# Altium integrated library Linear Technology Power Management Hot Swap Controllers.IntLib: 992 symbols (part 6 of 93)
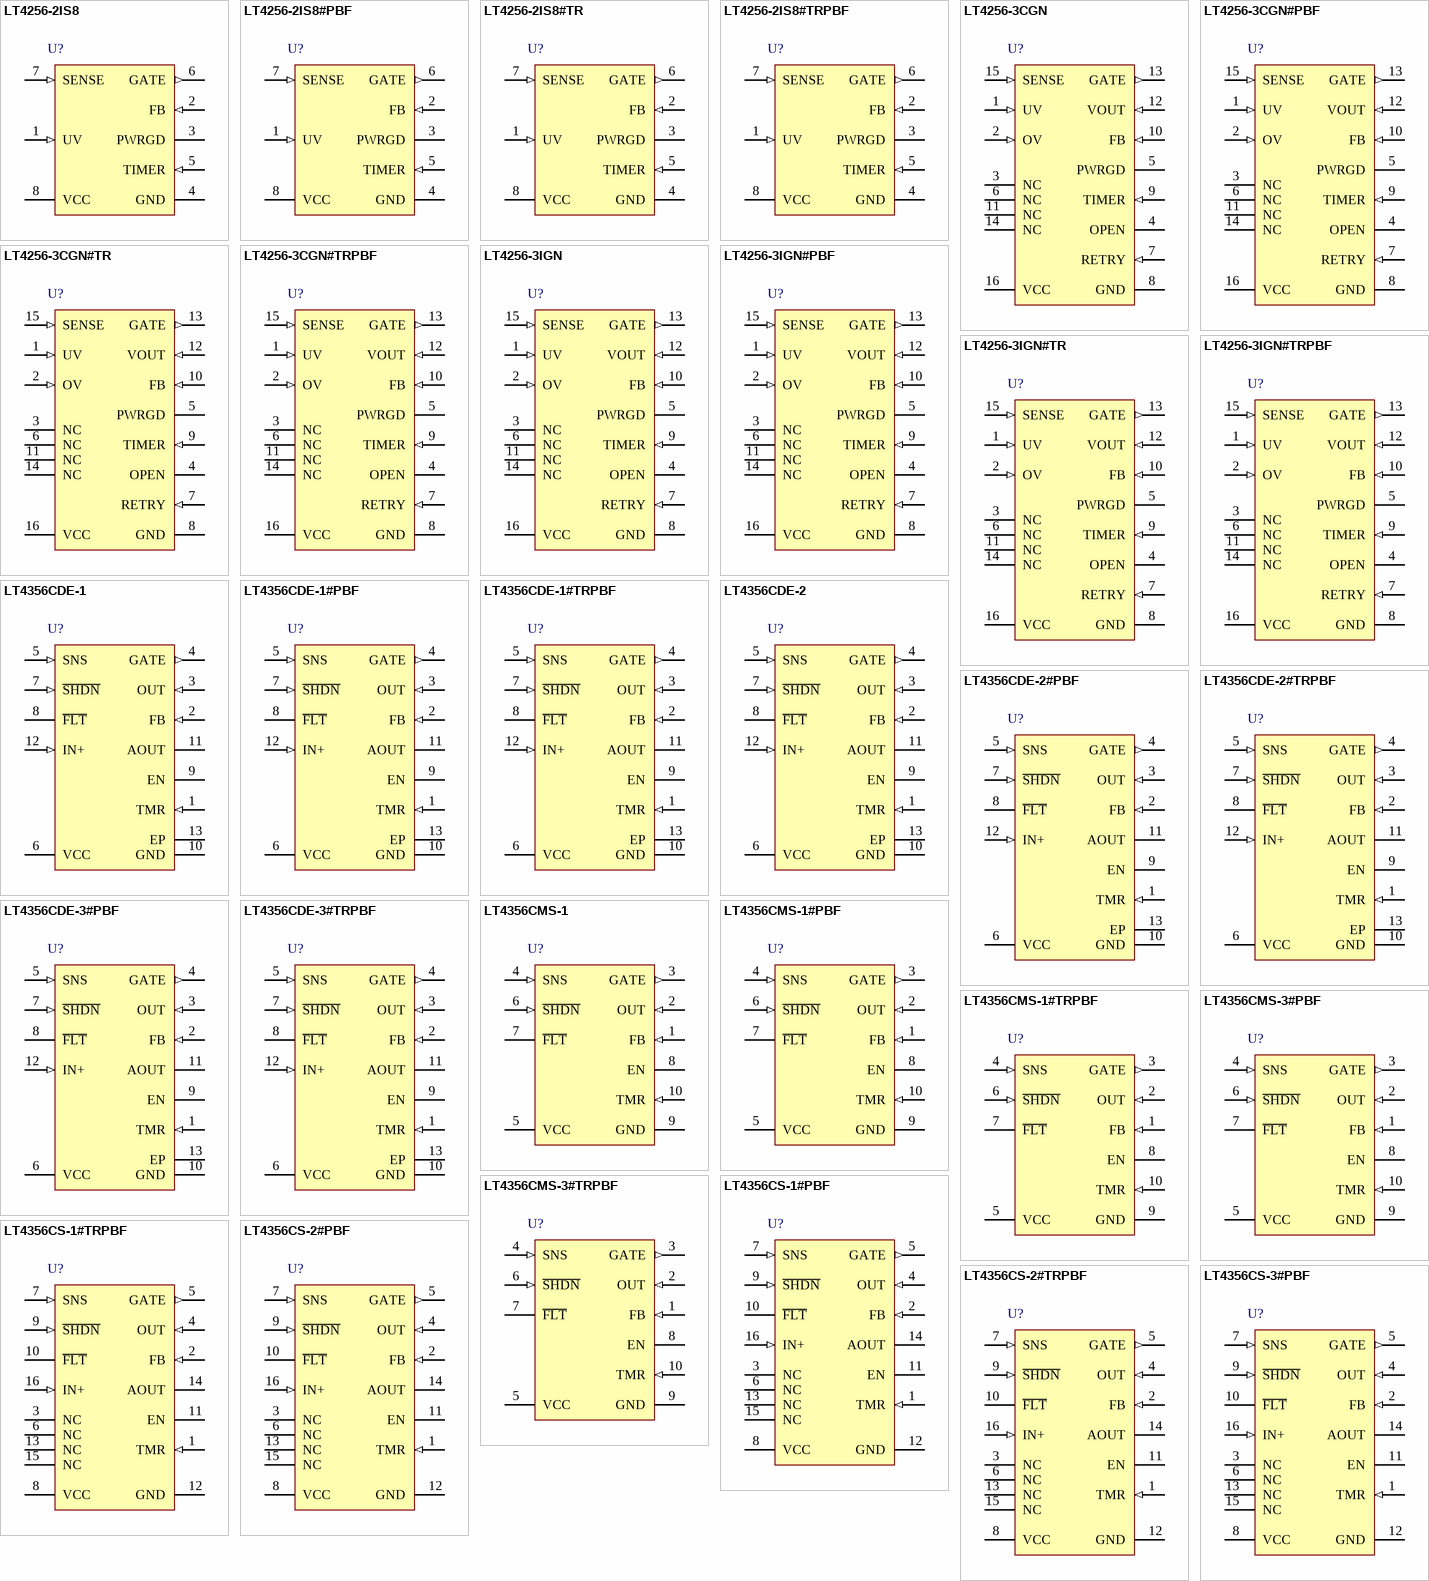
[diagram p42: symbols LT4256-2IS8 to LT4356CS-3#PBF]

## LT4256-3IGN#TR
designator U?
Positive High Voltage Hot Swap Controller with Open-Circuit Detect, 10.8 to 80 V Vin, 16-pin SOP (GN-16), -40 to 85 degC, Tape and Reel; Manufacturer: Linear Technology; PartNumber: LT4256-3IGN#TR; Active Limiting: yes; Circuit Breaker Accuracy(%): 18; Circuit Breaker Threshold: 55 mV; Circuit Breakers(#): 1; Extended Temp: C, I; Fast Comparator: no; In-Rush Current: Active; DatasheetVersion: Rev. A; PackageVersion: Rev. B, 03/2012; PackageReference: GN-16; PackageDescription: 16-Pin Plastic SSOP, Body 4.9 x 3.9 mm, Pitch 0.635 mm; Supplier 1: Digi-Key; Supplier Part Number 1: LT4256-3IGN#TR-ND; Fault: no; Foldback: yes; Packing: Tape and Reel; Power Good: yes; Reset: no; RoHS: FALSE; Vin Range: 10.8 to 80 V; Mounting Technology: Surface Mount; ComponentLink1Description: Manufacturer URL; ComponentLink1URL: http://www.linear.com/; ComponentLink2Description: Datasheet; ComponentLink2URL: http://cds.linear.com/docs/en/datasheet/42563fa.pm6.pdf; ComponentLink3Description: Package Specification; ComponentLink3URL: http://cds.linear.com/docs/en/packaging/05081641_B_GN16.pdf
footprint LT-GN-16_N (SOP, 16-Leads, Body 5x4mm, Pitch 0.635mm, IPC Medium Density)
footprint LT-GN-16_L (SOP, 16-Leads, Body 5x4mm, Pitch 0.635mm, IPC High Density)
footprint LT-GN-16_M (SOP, 16-Leads, Body 5x4mm, Pitch 0.635mm, IPC Low Density)
pins: 1 UV (in) "Undervoltage Sense Input. UV is an input that enables the output voltage. When UV is driven above 4V, GATE will start charging and the output turns on. When UV goes below 3.6V, GATE discharges and the output shuts off. (See Datasheet)", 2 OV (in) "Overvoltage Sense Input. OV is an input that disables the output voltage. If OV ever goes above 4V, GATE is discharged and the output shuts off. When OV goes below 3.6V, GATE starts charging and the output turns back on. To (See Datasheet)", 3 NC "No Connect. Not connected to any internal circuitry.", 4 OPEN (oc) "Open Circuit Detect Output. This pin is an open collector output that releases and is pulled high through an external resistor if the load current is less than (3mV)/R5.", 5 PWRGD (hiz) "Power Good Output. PWRGD is pulled low whenever the voltage on FB falls below the high-to-low threshold voltage. It goes into a high impedance state when the voltage on FB exceeds the low-to-high threshold voltage. An (See Datasheet)", 6 NC "No Connect. Not connected to any internal circuitry.", 7 RETRY (in) "Current Fault Retry Input. RETRY commands the operational mode of the current limit. If RETRY is floating, the LT4256-3 automatically restarts after a current fault. If it is connected to a voltage below 0.4V, it will latch (See Datasheet)", 8 GND (power) "Device Ground. This pin must be tied to a ground plane for best performance.", 9 TIMER (in) "Timing Input. An external timing capacitor from TIMER to GND programs the maximum time the part is allowed to remain in current limit. When the part goes into current limit, a 105uA pull-up current source starts to charge (See Datasheet)", 10 FB (in) "Power Good Comparator Input. FB monitors the output voltage through an external resistive divider. When the voltage on FB is lower than the high-to-low threshold of 3.99V, PWRGD is pulled low and released when FB is pulled (See Datasheet)", 11 NC "No Connect. Not connected to any internal circuitry.", 12 VOUT (in) "Output Voltage Sense Input. This pin should be connected to the source of the external MOSFET. It is used to sense when the MOSFET is shut off (during any fault mode) and to reduce the pull-down current on GATE. This (See Datasheet)", 13 GATE (out) "High Side Gate Drive for the External N-Channel MOSFET. An internal charge pump guarantees at least 10V of gate drive for VCC supply voltages above 20V and 4.5V of gate drive for VCC supply voltages between 10.8V and 20V. (See Datasheet)", 14 NC "No Connect. Not connected to any internal circuitry.", 15 SENSE (in) "Current Limit Sense Input. A sense resistor is placed in the supply path between VCC and SENSE. The current limit circuit regulates the voltage across the sense resistor (VCC - SENSE) to 55mV while in current limit when FB (See Datasheet)", 16 VCC (power) "Input Supply Voltage. The positive supply input ranges from 10.8V to 80V for normal operation. ICC is typically 1.8mA. An internal circuit disables the LT4256-3 for inputs less than 9.8V (typ)."

## LT4256-3IGN#TRPBF
designator U?
Positive High Voltage Hot Swap Controller with Open-Circuit Detect, 10.8 to 80 V Vin, 16-pin SOP (GN-16), -40 to 85 degC, Pb-Free, Tape and Reel; Manufacturer: Linear Technology; PartNumber: LT4256-3IGN#TRPBF; Active Limiting: yes; Circuit Breaker Accuracy(%): 18; Circuit Breaker Threshold: 55 mV; Circuit Breakers(#): 1; Extended Temp: C, I; Fast Comparator: no; In-Rush Current: Active; DatasheetVersion: Rev. A; PackageVersion: Rev. B, 03/2012; PackageReference: GN-16; PackageDescription: 16-Pin Plastic SSOP, Body 4.9 x 3.9 mm, Pitch 0.635 mm; Supplier 1: Digi-Key; Supplier Part Number 1: LT4256-3IGN#TRPBF-ND; Supplier 2: Newark; Supplier Part Number 2: 57M8704; Fault: no; Foldback: yes; Packing: Tape and Reel; Power Good: yes; Reset: no; RoHS: TRUE; Vin Range: 10.8 to 80 V; Mounting Technology: Surface Mount; ComponentLink1Description: Manufacturer URL; ComponentLink1URL: http://www.linear.com/; ComponentLink2Description: Datasheet; ComponentLink2URL: http://cds.linear.com/docs/en/datasheet/42563fa.pm6.pdf; ComponentLink3Description: Package Specification; ComponentLink3URL: http://cds.linear.com/docs/en/packaging/05081641_B_GN16.pdf
footprint LT-GN-16_N (SOP, 16-Leads, Body 5x4mm, Pitch 0.635mm, IPC Medium Density)
footprint LT-GN-16_L (SOP, 16-Leads, Body 5x4mm, Pitch 0.635mm, IPC High Density)
footprint LT-GN-16_M (SOP, 16-Leads, Body 5x4mm, Pitch 0.635mm, IPC Low Density)
pins: 1 UV (in) "Undervoltage Sense Input. UV is an input that enables the output voltage. When UV is driven above 4V, GATE will start charging and the output turns on. When UV goes below 3.6V, GATE discharges and the output shuts off. (See Datasheet)", 2 OV (in) "Overvoltage Sense Input. OV is an input that disables the output voltage. If OV ever goes above 4V, GATE is discharged and the output shuts off. When OV goes below 3.6V, GATE starts charging and the output turns back on. To (See Datasheet)", 3 NC "No Connect. Not connected to any internal circuitry.", 4 OPEN (oc) "Open Circuit Detect Output. This pin is an open collector output that releases and is pulled high through an external resistor if the load current is less than (3mV)/R5.", 5 PWRGD (hiz) "Power Good Output. PWRGD is pulled low whenever the voltage on FB falls below the high-to-low threshold voltage. It goes into a high impedance state when the voltage on FB exceeds the low-to-high threshold voltage. An (See Datasheet)", 6 NC "No Connect. Not connected to any internal circuitry.", 7 RETRY (in) "Current Fault Retry Input. RETRY commands the operational mode of the current limit. If RETRY is floating, the LT4256-3 automatically restarts after a current fault. If it is connected to a voltage below 0.4V, it will latch (See Datasheet)", 8 GND (power) "Device Ground. This pin must be tied to a ground plane for best performance.", 9 TIMER (in) "Timing Input. An external timing capacitor from TIMER to GND programs the maximum time the part is allowed to remain in current limit. When the part goes into current limit, a 105uA pull-up current source starts to charge (See Datasheet)", 10 FB (in) "Power Good Comparator Input. FB monitors the output voltage through an external resistive divider. When the voltage on FB is lower than the high-to-low threshold of 3.99V, PWRGD is pulled low and released when FB is pulled (See Datasheet)", 11 NC "No Connect. Not connected to any internal circuitry.", 12 VOUT (in) "Output Voltage Sense Input. This pin should be connected to the source of the external MOSFET. It is used to sense when the MOSFET is shut off (during any fault mode) and to reduce the pull-down current on GATE. This (See Datasheet)", 13 GATE (out) "High Side Gate Drive for the External N-Channel MOSFET. An internal charge pump guarantees at least 10V of gate drive for VCC supply voltages above 20V and 4.5V of gate drive for VCC supply voltages between 10.8V and 20V. (See Datasheet)", 14 NC "No Connect. Not connected to any internal circuitry.", 15 SENSE (in) "Current Limit Sense Input. A sense resistor is placed in the supply path between VCC and SENSE. The current limit circuit regulates the voltage across the sense resistor (VCC - SENSE) to 55mV while in current limit when FB (See Datasheet)", 16 VCC (power) "Input Supply Voltage. The positive supply input ranges from 10.8V to 80V for normal operation. ICC is typically 1.8mA. An internal circuit disables the LT4256-3 for inputs less than 9.8V (typ)."

## LT4356CDE-1
designator U?
Surge Stopper, 4 to 80 V Vin, 12-pin SON (DE-UE-12), 0 to 70 degC; Manufacturer: Linear Technology; PartNumber: LT4356CDE-1; Active Limiting: yes; Circuit Breaker Accuracy(%): 10; Circuit Breaker Threshold: 50 mV; Circuit Breakers(#): 1; Extended Temp: C, I, H; Fast Comparator: no; In-Rush Current: Ramp; Vin Range: 4 to 80 V; DatasheetVersion: Rev. A; PackageVersion: Rev. D, 06/2010; PackageReference: DE-UE-12; PackageDescription: 12-Pin Plastic DFN, Body 4 x 3 mm, Pitch 0.5 mm; Fault: no; Foldback: yes; Power Good: no; Reset: no; RoHS: FALSE; Mounting Technology: Surface Mount; Code_JEDEC: MO-229; ComponentLink1Description: Manufacturer URL; ComponentLink1URL: http://www.linear.com/; ComponentLink2Description: Datasheet; ComponentLink2URL: http://cds.linear.com/docs/en/datasheet/4356fa.pdf; ComponentLink3Description: Package Specification; ComponentLink3URL: http://cds.linear.com/docs/en/packaging/DFN_12_05-08-1695.pdf
footprint LT-DE-UE-12_V (SON, 12-Leads, Body 4x3mm, Pitch 0.5mm, Thermal Pad 3.3x1.7mm)
pins: 1 TMR (in) "Fault Timer Input. Connect a capacitor between this pin and ground to set the times for early warning, fault and cool down periods. The current charging up this pin during fault conditions depends on the voltage difference (See Datasheet)", 2 FB (in) "Voltage Regulator Feedback Input. Connect this pin to the center tap of the output resistive divider connected between the OUT pin and ground. During an overvoltage condition, the GATE pin is servoed to maintain a 1.25V (See Datasheet)", 3 OUT (in) "Output Voltage Sense Input. This pin senses the voltage at the source of the N-channel MOSFET and sets the fault timer current. When the OUT pin voltage reaches 0.7V away from VCC, the EN pin goes high impedance.", 4 GATE (out) "N-Channel MOSFET Gate Drive Output. The GATE pin is pulled up by an internal charge pump current source and clamped to 14V above the OUT pin. Both voltage and current amplifiers control the GATE pin to regulate the output (See Datasheet)", 5 SNS (in) "Current Sense Input. Connect this pin to the output of the current sense resistor. The current limit circuit controls the GATE pin to limit the sense voltage between VCC and SNS pins to 50mV. At the same time the sense (See Datasheet)", 6 VCC (power) "Positive Supply Voltage Input.", 7 ~{SHDN} (in) "Shutdown Control Input. The LT4356 can be shut down to a low current mode by pulling the S\H\D\N\ pin below 0.4V. Pull this pin above 2.1V or disconnect it and allow the internal current source to turn the part back on. The (See Datasheet)", 8 ~{FLT} (hiz) "Open-Collector Fault Output. This pin pulls low after the voltage at the TMR pin has reached the fault threshold of 1.25V. It indicates the pass transistor is about to turn off because either the supply voltage has stayed at (See Datasheet)", 9 EN (hiz) "Open-Collector Enable Output. The EN pin goes high impedance when the voltage at the OUT pin is above (VCC - 0.7V), indicating the external MOSFET is fully on.", 10 GND (power) "Device Ground.", 11 AOUT (oc) "Amplifier Output. Open collector output of the auxiliary amplifier. It is capable of sinking up to 2mA from 80V. The negative input of the amplifier is internally connected to a 1.25V reference.", 12 IN+ (in) "Positive Input of the Auxiliary Amplifier. This amplifier can be used as a level detection comparator with external hysteresis or linear regulator controlling an external PNP transistor. This pin is clamped internally to 7V. (See Datasheet)", 13 EP (power) "Exposed pad may be left open or connected to device ground (GND)."

## LT4356CDE-1#PBF
designator U?
Surge Stopper, 4 to 80 V Vin, 12-pin SON (DE-UE-12), 0 to 70 degC, Pb-Free; Manufacturer: Linear Technology; PartNumber: LT4356CDE-1#PBF; Active Limiting: yes; Circuit Breaker Accuracy(%): 10; Circuit Breaker Threshold: 50 mV; Circuit Breakers(#): 1; Extended Temp: C, I, H; Fast Comparator: no; In-Rush Current: Ramp; Vin Range: 4 to 80 V; DatasheetVersion: Rev. A; PackageVersion: Rev. D, 06/2010; PackageReference: DE-UE-12; PackageDescription: 12-Pin Plastic DFN, Body 4 x 3 mm, Pitch 0.5 mm; Supplier 1: Digi-Key; Supplier Part Number 1: LT4356CDE-1#PBF-ND; Supplier 2: Newark; Supplier Part Number 2: 57M8714; Fault: no; Foldback: yes; Power Good: no; Reset: no; RoHS: TRUE; Mounting Technology: Surface Mount; Code_JEDEC: MO-229; ComponentLink1Description: Manufacturer URL; ComponentLink1URL: http://www.linear.com/; ComponentLink2Description: Datasheet; ComponentLink2URL: http://cds.linear.com/docs/en/datasheet/4356fa.pdf; ComponentLink3Description: Package Specification; ComponentLink3URL: http://cds.linear.com/docs/en/packaging/DFN_12_05-08-1695.pdf
footprint LT-DE-UE-12_V (SON, 12-Leads, Body 4x3mm, Pitch 0.5mm, Thermal Pad 3.3x1.7mm)
pins: 1 TMR (in) "Fault Timer Input. Connect a capacitor between this pin and ground to set the times for early warning, fault and cool down periods. The current charging up this pin during fault conditions depends on the voltage difference (See Datasheet)", 2 FB (in) "Voltage Regulator Feedback Input. Connect this pin to the center tap of the output resistive divider connected between the OUT pin and ground. During an overvoltage condition, the GATE pin is servoed to maintain a 1.25V (See Datasheet)", 3 OUT (in) "Output Voltage Sense Input. This pin senses the voltage at the source of the N-channel MOSFET and sets the fault timer current. When the OUT pin voltage reaches 0.7V away from VCC, the EN pin goes high impedance.", 4 GATE (out) "N-Channel MOSFET Gate Drive Output. The GATE pin is pulled up by an internal charge pump current source and clamped to 14V above the OUT pin. Both voltage and current amplifiers control the GATE pin to regulate the output (See Datasheet)", 5 SNS (in) "Current Sense Input. Connect this pin to the output of the current sense resistor. The current limit circuit controls the GATE pin to limit the sense voltage between VCC and SNS pins to 50mV. At the same time the sense (See Datasheet)", 6 VCC (power) "Positive Supply Voltage Input.", 7 ~{SHDN} (in) "Shutdown Control Input. The LT4356 can be shut down to a low current mode by pulling the S\H\D\N\ pin below 0.4V. Pull this pin above 2.1V or disconnect it and allow the internal current source to turn the part back on. The (See Datasheet)", 8 ~{FLT} (hiz) "Open-Collector Fault Output. This pin pulls low after the voltage at the TMR pin has reached the fault threshold of 1.25V. It indicates the pass transistor is about to turn off because either the supply voltage has stayed at (See Datasheet)", 9 EN (hiz) "Open-Collector Enable Output. The EN pin goes high impedance when the voltage at the OUT pin is above (VCC - 0.7V), indicating the external MOSFET is fully on.", 10 GND (power) "Device Ground.", 11 AOUT (oc) "Amplifier Output. Open collector output of the auxiliary amplifier. It is capable of sinking up to 2mA from 80V. The negative input of the amplifier is internally connected to a 1.25V reference.", 12 IN+ (in) "Positive Input of the Auxiliary Amplifier. This amplifier can be used as a level detection comparator with external hysteresis or linear regulator controlling an external PNP transistor. This pin is clamped internally to 7V. (See Datasheet)", 13 EP (power) "Exposed pad may be left open or connected to device ground (GND)."

## LT4356CDE-1#TRPBF
designator U?
Surge Stopper, 4 to 80 V Vin, 12-pin SON (DE-UE-12), 0 to 70 degC, Pb-Free, Tape and Reel; Manufacturer: Linear Technology; PartNumber: LT4356CDE-1#TRPBF; Active Limiting: yes; Circuit Breaker Accuracy(%): 10; Circuit Breaker Threshold: 50 mV; Circuit Breakers(#): 1; Extended Temp: C, I, H; Fast Comparator: no; In-Rush Current: Ramp; Vin Range: 4 to 80 V; DatasheetVersion: Rev. A; PackageVersion: Rev. D, 06/2010; PackageReference: DE-UE-12; PackageDescription: 12-Pin Plastic DFN, Body 4 x 3 mm, Pitch 0.5 mm; Supplier 1: Digi-Key; Supplier Part Number 1: LT4356CDE-1#TRPBF-ND; Fault: no; Foldback: yes; Packing: Tape and Reel; Power Good: no; Reset: no; RoHS: TRUE; Mounting Technology: Surface Mount; Code_JEDEC: MO-229; ComponentLink1Description: Manufacturer URL; ComponentLink1URL: http://www.linear.com/; ComponentLink2Description: Datasheet; ComponentLink2URL: http://cds.linear.com/docs/en/datasheet/4356fa.pdf; ComponentLink3Description: Package Specification; ComponentLink3URL: http://cds.linear.com/docs/en/packaging/DFN_12_05-08-1695.pdf
footprint LT-DE-UE-12_V (SON, 12-Leads, Body 4x3mm, Pitch 0.5mm, Thermal Pad 3.3x1.7mm)
pins: 1 TMR (in) "Fault Timer Input. Connect a capacitor between this pin and ground to set the times for early warning, fault and cool down periods. The current charging up this pin during fault conditions depends on the voltage difference (See Datasheet)", 2 FB (in) "Voltage Regulator Feedback Input. Connect this pin to the center tap of the output resistive divider connected between the OUT pin and ground. During an overvoltage condition, the GATE pin is servoed to maintain a 1.25V (See Datasheet)", 3 OUT (in) "Output Voltage Sense Input. This pin senses the voltage at the source of the N-channel MOSFET and sets the fault timer current. When the OUT pin voltage reaches 0.7V away from VCC, the EN pin goes high impedance.", 4 GATE (out) "N-Channel MOSFET Gate Drive Output. The GATE pin is pulled up by an internal charge pump current source and clamped to 14V above the OUT pin. Both voltage and current amplifiers control the GATE pin to regulate the output (See Datasheet)", 5 SNS (in) "Current Sense Input. Connect this pin to the output of the current sense resistor. The current limit circuit controls the GATE pin to limit the sense voltage between VCC and SNS pins to 50mV. At the same time the sense (See Datasheet)", 6 VCC (power) "Positive Supply Voltage Input.", 7 ~{SHDN} (in) "Shutdown Control Input. The LT4356 can be shut down to a low current mode by pulling the S\H\D\N\ pin below 0.4V. Pull this pin above 2.1V or disconnect it and allow the internal current source to turn the part back on. The (See Datasheet)", 8 ~{FLT} (hiz) "Open-Collector Fault Output. This pin pulls low after the voltage at the TMR pin has reached the fault threshold of 1.25V. It indicates the pass transistor is about to turn off because either the supply voltage has stayed at (See Datasheet)", 9 EN (hiz) "Open-Collector Enable Output. The EN pin goes high impedance when the voltage at the OUT pin is above (VCC - 0.7V), indicating the external MOSFET is fully on.", 10 GND (power) "Device Ground.", 11 AOUT (oc) "Amplifier Output. Open collector output of the auxiliary amplifier. It is capable of sinking up to 2mA from 80V. The negative input of the amplifier is internally connected to a 1.25V reference.", 12 IN+ (in) "Positive Input of the Auxiliary Amplifier. This amplifier can be used as a level detection comparator with external hysteresis or linear regulator controlling an external PNP transistor. This pin is clamped internally to 7V. (See Datasheet)", 13 EP (power) "Exposed pad may be left open or connected to device ground (GND)."

## LT4356CDE-2
designator U?
Surge Stopper, 4 to 80 V Vin, 12-pin SON (DE-UE-12), 0 to 70 degC; Manufacturer: Linear Technology; PartNumber: LT4356CDE-2; Active Limiting: yes; Circuit Breaker Accuracy(%): 10; Circuit Breaker Threshold: 50 mV; Circuit Breakers(#): 1; Extended Temp: C, I, H; Fast Comparator: no; In-Rush Current: Ramp; Vin Range: 4 to 80 V; DatasheetVersion: Rev. A; PackageVersion: Rev. D, 06/2010; PackageReference: DE-UE-12; PackageDescription: 12-Pin Plastic DFN, Body 4 x 3 mm, Pitch 0.5 mm; Fault: no; Foldback: yes; Power Good: no; Reset: no; RoHS: FALSE; Mounting Technology: Surface Mount; Code_JEDEC: MO-229; ComponentLink1Description: Manufacturer URL; ComponentLink1URL: http://www.linear.com/; ComponentLink2Description: Datasheet; ComponentLink2URL: http://cds.linear.com/docs/en/datasheet/4356fa.pdf; ComponentLink3Description: Package Specification; ComponentLink3URL: http://cds.linear.com/docs/en/packaging/DFN_12_05-08-1695.pdf
footprint LT-DE-UE-12_V (SON, 12-Leads, Body 4x3mm, Pitch 0.5mm, Thermal Pad 3.3x1.7mm)
pins: 1 TMR (in) "Fault Timer Input. Connect a capacitor between this pin and ground to set the times for early warning, fault and cool down periods. The current charging up this pin during fault conditions depends on the voltage difference (See Datasheet)", 2 FB (in) "Voltage Regulator Feedback Input. Connect this pin to the center tap of the output resistive divider connected between the OUT pin and ground. During an overvoltage condition, the GATE pin is servoed to maintain a 1.25V (See Datasheet)", 3 OUT (in) "Output Voltage Sense Input. This pin senses the voltage at the source of the N-channel MOSFET and sets the fault timer current. When the OUT pin voltage reaches 0.7V away from VCC, the EN pin goes high impedance.", 4 GATE (out) "N-Channel MOSFET Gate Drive Output. The GATE pin is pulled up by an internal charge pump current source and clamped to 14V above the OUT pin. Both voltage and current amplifiers control the GATE pin to regulate the output (See Datasheet)", 5 SNS (in) "Current Sense Input. Connect this pin to the output of the current sense resistor. The current limit circuit controls the GATE pin to limit the sense voltage between VCC and SNS pins to 50mV. At the same time the sense (See Datasheet)", 6 VCC (power) "Positive Supply Voltage Input.", 7 ~{SHDN} (in) "Shutdown Control Input. The LT4356 can be shut down to a low current mode by pulling the S\H\D\N\ pin below 0.4V. Pull this pin above 2.1V or disconnect it and allow the internal current source to turn the part back on. The (See Datasheet)", 8 ~{FLT} (hiz) "Open-Collector Fault Output. This pin pulls low after the voltage at the TMR pin has reached the fault threshold of 1.25V. It indicates the pass transistor is about to turn off because either the supply voltage has stayed at (See Datasheet)", 9 EN (hiz) "Open-Collector Enable Output. The EN pin goes high impedance when the voltage at the OUT pin is above (VCC - 0.7V), indicating the external MOSFET is fully on.", 10 GND (power) "Device Ground.", 11 AOUT (oc) "Amplifier Output. Open collector output of the auxiliary amplifier. It is capable of sinking up to 2mA from 80V. The negative input of the amplifier is internally connected to a 1.25V reference.", 12 IN+ (in) "Positive Input of the Auxiliary Amplifier. This amplifier can be used as a level detection comparator with external hysteresis or linear regulator controlling an external PNP transistor. This pin is clamped internally to 7V. (See Datasheet)", 13 EP (power) "Exposed pad may be left open or connected to device ground (GND)."

## LT4356CDE-2#PBF
designator U?
Surge Stopper, 4 to 80 V Vin, 12-pin SON (DE-UE-12), 0 to 70 degC, Pb-Free; Manufacturer: Linear Technology; PartNumber: LT4356CDE-2#PBF; Active Limiting: yes; Circuit Breaker Accuracy(%): 10; Circuit Breaker Threshold: 50 mV; Circuit Breakers(#): 1; Extended Temp: C, I, H; Fast Comparator: no; In-Rush Current: Ramp; Vin Range: 4 to 80 V; DatasheetVersion: Rev. A; PackageVersion: Rev. D, 06/2010; PackageReference: DE-UE-12; PackageDescription: 12-Pin Plastic DFN, Body 4 x 3 mm, Pitch 0.5 mm; Supplier 1: Digi-Key; Supplier Part Number 1: LT4356CDE-2#PBF-ND; Supplier 2: Newark; Supplier Part Number 2: 51P3111; Fault: no; Foldback: yes; Power Good: no; Reset: no; RoHS: TRUE; Mounting Technology: Surface Mount; Code_JEDEC: MO-229; ComponentLink1Description: Manufacturer URL; ComponentLink1URL: http://www.linear.com/; ComponentLink2Description: Datasheet; ComponentLink2URL: http://cds.linear.com/docs/en/datasheet/4356fa.pdf; ComponentLink3Description: Package Specification; ComponentLink3URL: http://cds.linear.com/docs/en/packaging/DFN_12_05-08-1695.pdf
footprint LT-DE-UE-12_V (SON, 12-Leads, Body 4x3mm, Pitch 0.5mm, Thermal Pad 3.3x1.7mm)
pins: 1 TMR (in) "Fault Timer Input. Connect a capacitor between this pin and ground to set the times for early warning, fault and cool down periods. The current charging up this pin during fault conditions depends on the voltage difference (See Datasheet)", 2 FB (in) "Voltage Regulator Feedback Input. Connect this pin to the center tap of the output resistive divider connected between the OUT pin and ground. During an overvoltage condition, the GATE pin is servoed to maintain a 1.25V (See Datasheet)", 3 OUT (in) "Output Voltage Sense Input. This pin senses the voltage at the source of the N-channel MOSFET and sets the fault timer current. When the OUT pin voltage reaches 0.7V away from VCC, the EN pin goes high impedance.", 4 GATE (out) "N-Channel MOSFET Gate Drive Output. The GATE pin is pulled up by an internal charge pump current source and clamped to 14V above the OUT pin. Both voltage and current amplifiers control the GATE pin to regulate the output (See Datasheet)", 5 SNS (in) "Current Sense Input. Connect this pin to the output of the current sense resistor. The current limit circuit controls the GATE pin to limit the sense voltage between VCC and SNS pins to 50mV. At the same time the sense (See Datasheet)", 6 VCC (power) "Positive Supply Voltage Input.", 7 ~{SHDN} (in) "Shutdown Control Input. The LT4356 can be shut down to a low current mode by pulling the S\H\D\N\ pin below 0.4V. Pull this pin above 2.1V or disconnect it and allow the internal current source to turn the part back on. The (See Datasheet)", 8 ~{FLT} (hiz) "Open-Collector Fault Output. This pin pulls low after the voltage at the TMR pin has reached the fault threshold of 1.25V. It indicates the pass transistor is about to turn off because either the supply voltage has stayed at (See Datasheet)", 9 EN (hiz) "Open-Collector Enable Output. The EN pin goes high impedance when the voltage at the OUT pin is above (VCC - 0.7V), indicating the external MOSFET is fully on.", 10 GND (power) "Device Ground.", 11 AOUT (oc) "Amplifier Output. Open collector output of the auxiliary amplifier. It is capable of sinking up to 2mA from 80V. The negative input of the amplifier is internally connected to a 1.25V reference.", 12 IN+ (in) "Positive Input of the Auxiliary Amplifier. This amplifier can be used as a level detection comparator with external hysteresis or linear regulator controlling an external PNP transistor. This pin is clamped internally to 7V. (See Datasheet)", 13 EP (power) "Exposed pad may be left open or connected to device ground (GND)."

## LT4356CDE-2#TRPBF
designator U?
Surge Stopper, 4 to 80 V Vin, 12-pin SON (DE-UE-12), 0 to 70 degC, Pb-Free, Tape and Reel; Manufacturer: Linear Technology; PartNumber: LT4356CDE-2#TRPBF; Active Limiting: yes; Circuit Breaker Accuracy(%): 10; Circuit Breaker Threshold: 50 mV; Circuit Breakers(#): 1; Extended Temp: C, I, H; Fast Comparator: no; In-Rush Current: Ramp; Vin Range: 4 to 80 V; DatasheetVersion: Rev. A; PackageVersion: Rev. D, 06/2010; PackageReference: DE-UE-12; PackageDescription: 12-Pin Plastic DFN, Body 4 x 3 mm, Pitch 0.5 mm; Supplier 1: Digi-Key; Supplier Part Number 1: LT4356CDE-2#TRPBF-ND; Fault: no; Foldback: yes; Packing: Tape and Reel; Power Good: no; Reset: no; RoHS: TRUE; Mounting Technology: Surface Mount; Code_JEDEC: MO-229; ComponentLink1Description: Manufacturer URL; ComponentLink1URL: http://www.linear.com/; ComponentLink2Description: Datasheet; ComponentLink2URL: http://cds.linear.com/docs/en/datasheet/4356fa.pdf; ComponentLink3Description: Package Specification; ComponentLink3URL: http://cds.linear.com/docs/en/packaging/DFN_12_05-08-1695.pdf
footprint LT-DE-UE-12_V (SON, 12-Leads, Body 4x3mm, Pitch 0.5mm, Thermal Pad 3.3x1.7mm)
pins: 1 TMR (in) "Fault Timer Input. Connect a capacitor between this pin and ground to set the times for early warning, fault and cool down periods. The current charging up this pin during fault conditions depends on the voltage difference (See Datasheet)", 2 FB (in) "Voltage Regulator Feedback Input. Connect this pin to the center tap of the output resistive divider connected between the OUT pin and ground. During an overvoltage condition, the GATE pin is servoed to maintain a 1.25V (See Datasheet)", 3 OUT (in) "Output Voltage Sense Input. This pin senses the voltage at the source of the N-channel MOSFET and sets the fault timer current. When the OUT pin voltage reaches 0.7V away from VCC, the EN pin goes high impedance.", 4 GATE (out) "N-Channel MOSFET Gate Drive Output. The GATE pin is pulled up by an internal charge pump current source and clamped to 14V above the OUT pin. Both voltage and current amplifiers control the GATE pin to regulate the output (See Datasheet)", 5 SNS (in) "Current Sense Input. Connect this pin to the output of the current sense resistor. The current limit circuit controls the GATE pin to limit the sense voltage between VCC and SNS pins to 50mV. At the same time the sense (See Datasheet)", 6 VCC (power) "Positive Supply Voltage Input.", 7 ~{SHDN} (in) "Shutdown Control Input. The LT4356 can be shut down to a low current mode by pulling the S\H\D\N\ pin below 0.4V. Pull this pin above 2.1V or disconnect it and allow the internal current source to turn the part back on. The (See Datasheet)", 8 ~{FLT} (hiz) "Open-Collector Fault Output. This pin pulls low after the voltage at the TMR pin has reached the fault threshold of 1.25V. It indicates the pass transistor is about to turn off because either the supply voltage has stayed at (See Datasheet)", 9 EN (hiz) "Open-Collector Enable Output. The EN pin goes high impedance when the voltage at the OUT pin is above (VCC - 0.7V), indicating the external MOSFET is fully on.", 10 GND (power) "Device Ground.", 11 AOUT (oc) "Amplifier Output. Open collector output of the auxiliary amplifier. It is capable of sinking up to 2mA from 80V. The negative input of the amplifier is internally connected to a 1.25V reference.", 12 IN+ (in) "Positive Input of the Auxiliary Amplifier. This amplifier can be used as a level detection comparator with external hysteresis or linear regulator controlling an external PNP transistor. This pin is clamped internally to 7V. (See Datasheet)", 13 EP (power) "Exposed pad may be left open or connected to device ground (GND)."

## LT4356CDE-3#PBF
designator U?
Surge Stopper with Fault Latchoff, 4 to 80 V Vin, 12-pin SON (DE-UE-12), 0 to 70 degC, Pb-Free; Manufacturer: Linear Technology; PartNumber: LT4356CDE-3#PBF; Active Limiting: yes; Circuit Breaker Accuracy(%): 10; Circuit Breaker Threshold: 50 mV; Circuit Breakers(#): 1; Extended Temp: C, I, H, MP; Fast Comparator: no; In-Rush Current: Ramp; Vin Range: 4 to 80 V; DatasheetVersion: Rev. B; PackageVersion: Rev. D, 06/2010; PackageReference: DE-UE-12; PackageDescription: 12-Pin Plastic DFN, Body 4 x 3 mm, Pitch 0.5 mm; Supplier 1: Digi-Key; Supplier Part Number 1: LT4356CDE-3#PBF-ND; Supplier 2: Farnell; Supplier Part Number 2: 1710913; Supplier 3: Newark; Supplier Part Number 3: 80P3203; Fault: no; Foldback: yes; Power Good: no; Reset: no; RoHS: TRUE; Mounting Technology: Surface Mount; Code_JEDEC: MO-229; ComponentLink1Description: Manufacturer URL; ComponentLink1URL: http://www.linear.com/; ComponentLink2Description: Datasheet; ComponentLink2URL: http://cds.linear.com/docs/en/datasheet/43563fb.pdf; ComponentLink3Description: Package Specification; ComponentLink3URL: http://cds.linear.com/docs/en/packaging/DFN_12_05-08-1695.pdf
footprint LT-DE-UE-12_V (SON, 12-Leads, Body 4x3mm, Pitch 0.5mm, Thermal Pad 3.3x1.7mm)
pins: 1 TMR (in) "TMR: Fault Timer Input. Connect a capacitor between this pin and ground to set the times for early warning and fault periods. The current charging up this pin during fault conditions depends on the voltage difference between (See Datasheet)", 2 FB (in) "FB: Voltage Regulator Feedback Input. Connect this pin to the center tap of the output resistive divider connected between the OUT pin and ground. During an overvoltage condition, the GATE pin is servoed to maintain a 1.25V (See Datasheet)", 3 OUT (in) "OUT: Output Voltage Sense Input. This pin senses the voltage at the source of the N-channel MOSFET and sets the fault timer current. When the OUT pin voltage reaches 0.7V away from VCC, the EN pin goes high impedance.", 4 GATE (out) "GATE: N-Channel MOSFET Gate Drive Output. The GATE pin is pulled up by an internal charge pump current source and clamped to 14V above the OUT pin. Both voltage and current amplifiers control the GATE pin to regulate the (See Datasheet)", 5 SNS (in) "SNS: Current Sense Input. Connect this pin to the output of the current sense resistor. The current limit circuit controls the GATE pin to limit the sense voltage between VCC and SNS pins to 50mV. At the same time the sense (See Datasheet)", 6 VCC (power) "VCC: Positive Supply Voltage Input. The positive supply input ranges from 4V to 80V for normal operation. It can also be pulled below ground potential by up to 60V during a reverse battery condition, without damaging the (See Datasheet)", 7 ~{SHDN} (in) "S\H\D\N\: Shutdown Control Input. The LT4356-3 can be shut down to a low current mode by pulling the S\H\D\N\ pin below the shutdown threshold of 0.4V. All functions, including the spare amplifier, are turned off. Pull this (See Datasheet)", 8 ~{FLT} (oc) "F\L\T\: Open-Collector Fault Output. This pin pulls low after the voltage at the TMR pin has reached the fault threshold of 1.25V. It indicates the pass transistor is about to turn off because either the supply voltage has (See Datasheet)", 9 EN (hiz) "EN: Open-Collector Enable Output. The EN pin goes high impedance when the voltage at the OUT pin is above (VCC - 0.7V), indicating the external MOSFET is fully on. The state of the pin is latched until the OUT pin voltage (See Datasheet)", 10 GND (power) "GND: Device Ground.", 11 AOUT (oc) "Amplifier Output. Open collector output of the auxiliary amplifier. It is capable of sinking up to 2mA from 80V. The negative input of the amplifier is internally connected to a 1.25V reference.", 12 IN+ (in) "Positive Input of the Auxiliary Amplifier. This amplifier can be used as a level detection comparator with external hysteresis or linear regulator controlling an external PNP transistor. This pin is clamped internally to 7V. (See Datasheet)", 13 EP (power) "Exposed pad may be left open or connected to device ground (GND)."

## LT4356CDE-3#TRPBF
designator U?
Surge Stopper with Fault Latchoff, 4 to 80 V Vin, 12-pin SON (DE-UE-12), 0 to 70 degC, Pb-Free, Tape and Reel; Manufacturer: Linear Technology; PartNumber: LT4356CDE-3#TRPBF; Active Limiting: yes; Circuit Breaker Accuracy(%): 10; Circuit Breaker Threshold: 50 mV; Circuit Breakers(#): 1; Extended Temp: C, I, H, MP; Fast Comparator: no; In-Rush Current: Ramp; Vin Range: 4 to 80 V; DatasheetVersion: Rev. B; PackageVersion: Rev. D, 06/2010; PackageReference: DE-UE-12; PackageDescription: 12-Pin Plastic DFN, Body 4 x 3 mm, Pitch 0.5 mm; Supplier 1: Digi-Key; Supplier Part Number 1: LT4356CDE-3#TRPBF-ND; Fault: no; Foldback: yes; Packing: Tape and Reel; Power Good: no; Reset: no; RoHS: TRUE; Mounting Technology: Surface Mount; Code_JEDEC: MO-229; ComponentLink1Description: Manufacturer URL; ComponentLink1URL: http://www.linear.com/; ComponentLink2Description: Datasheet; ComponentLink2URL: http://cds.linear.com/docs/en/datasheet/43563fb.pdf; ComponentLink3Description: Package Specification; ComponentLink3URL: http://cds.linear.com/docs/en/packaging/DFN_12_05-08-1695.pdf
footprint LT-DE-UE-12_V (SON, 12-Leads, Body 4x3mm, Pitch 0.5mm, Thermal Pad 3.3x1.7mm)
pins: 1 TMR (in) "TMR: Fault Timer Input. Connect a capacitor between this pin and ground to set the times for early warning and fault periods. The current charging up this pin during fault conditions depends on the voltage difference between (See Datasheet)", 2 FB (in) "FB: Voltage Regulator Feedback Input. Connect this pin to the center tap of the output resistive divider connected between the OUT pin and ground. During an overvoltage condition, the GATE pin is servoed to maintain a 1.25V (See Datasheet)", 3 OUT (in) "OUT: Output Voltage Sense Input. This pin senses the voltage at the source of the N-channel MOSFET and sets the fault timer current. When the OUT pin voltage reaches 0.7V away from VCC, the EN pin goes high impedance.", 4 GATE (out) "GATE: N-Channel MOSFET Gate Drive Output. The GATE pin is pulled up by an internal charge pump current source and clamped to 14V above the OUT pin. Both voltage and current amplifiers control the GATE pin to regulate the (See Datasheet)", 5 SNS (in) "SNS: Current Sense Input. Connect this pin to the output of the current sense resistor. The current limit circuit controls the GATE pin to limit the sense voltage between VCC and SNS pins to 50mV. At the same time the sense (See Datasheet)", 6 VCC (power) "VCC: Positive Supply Voltage Input. The positive supply input ranges from 4V to 80V for normal operation. It can also be pulled below ground potential by up to 60V during a reverse battery condition, without damaging the (See Datasheet)", 7 ~{SHDN} (in) "S\H\D\N\: Shutdown Control Input. The LT4356-3 can be shut down to a low current mode by pulling the S\H\D\N\ pin below the shutdown threshold of 0.4V. All functions, including the spare amplifier, are turned off. Pull this (See Datasheet)", 8 ~{FLT} (oc) "F\L\T\: Open-Collector Fault Output. This pin pulls low after the voltage at the TMR pin has reached the fault threshold of 1.25V. It indicates the pass transistor is about to turn off because either the supply voltage has (See Datasheet)", 9 EN (hiz) "EN: Open-Collector Enable Output. The EN pin goes high impedance when the voltage at the OUT pin is above (VCC - 0.7V), indicating the external MOSFET is fully on. The state of the pin is latched until the OUT pin voltage (See Datasheet)", 10 GND (power) "GND: Device Ground.", 11 AOUT (oc) "Amplifier Output. Open collector output of the auxiliary amplifier. It is capable of sinking up to 2mA from 80V. The negative input of the amplifier is internally connected to a 1.25V reference.", 12 IN+ (in) "Positive Input of the Auxiliary Amplifier. This amplifier can be used as a level detection comparator with external hysteresis or linear regulator controlling an external PNP transistor. This pin is clamped internally to 7V. (See Datasheet)", 13 EP (power) "Exposed pad may be left open or connected to device ground (GND)."

## LT4356CMS-1
designator U?
Surge Stopper, 4 to 80 V Vin, 10-pin SOP (MS-10), 0 to 70 degC; Manufacturer: Linear Technology; PartNumber: LT4356CMS-1; Active Limiting: yes; Circuit Breaker Accuracy(%): 10; Circuit Breaker Threshold: 50 mV; Circuit Breakers(#): 1; Extended Temp: C, I, H; Fast Comparator: no; In-Rush Current: Ramp; Vin Range: 4 to 80 V; DatasheetVersion: Rev. A; PackageVersion: Rev. E, 06/2010; PackageReference: MS-10; PackageDescription: 10-Pin Plastic MSOP, Body 3 x 3 mm, Pitch 0.5 mm; Fault: no; Foldback: yes; Power Good: no; Reset: no; RoHS: FALSE; Mounting Technology: Surface Mount; ComponentLink1Description: Manufacturer URL; ComponentLink1URL: http://www.linear.com/; ComponentLink2Description: Datasheet; ComponentLink2URL: http://cds.linear.com/docs/en/datasheet/4356fa.pdf; ComponentLink3Description: Package Specification; ComponentLink3URL: http://cds.linear.com/docs/en/packaging/05081661_F_MS.pdf
footprint LT-MS-10_N (SOP, 10-Leads, Body 3.1x3.1mm, Pitch 0.5mm, IPC Medium Density)
footprint LT-MS-10_L (SOP, 10-Leads, Body 3.1x3.1mm, Pitch 0.5mm, IPC High Density)
footprint LT-MS-10_M (SOP, 10-Leads, Body 3.1x3.1mm, Pitch 0.5mm, IPC Low Density)
pins: 1 FB (in) "Voltage Regulator Feedback Input. Connect this pin to the center tap of the output resistive divider connected between the OUT pin and ground. During an overvoltage condition, the GATE pin is servoed to maintain a 1.25V (See Datasheet)", 2 OUT (in) "Output Voltage Sense Input. This pin senses the voltage at the source of the N-channel MOSFET and sets the fault timer current. When the OUT pin voltage reaches 0.7V away from VCC, the EN pin goes high impedance.", 3 GATE (out) "N-Channel MOSFET Gate Drive Output. The GATE pin is pulled up by an internal charge pump current source and clamped to 14V above the OUT pin. Both voltage and current amplifiers control the GATE pin to regulate the output (See Datasheet)", 4 SNS (in) "Current Sense Input. Connect this pin to the output of the current sense resistor. The current limit circuit controls the GATE pin to limit the sense voltage between VCC and SNS pins to 50mV. At the same time the sense (See Datasheet)", 5 VCC (power) "Positive Supply Voltage Input. The positive supply input ranges from 4V to 80V for normal operation. It can also be pulled below ground potential by up to 60V during a reverse battery condition, without damaging the part. (See Datasheet)", 6 ~{SHDN} (in) "Shutdown Control Input. The LT4356 can be shut down to a low current mode by pulling the S\H\D\N\ pin below 0.4V. Pull this pin above 2.1V or disconnect it and allow the internal current source to turn the part back on. The (See Datasheet)", 7 ~{FLT} (hiz) "Open-Collector Fault Output. This pin pulls low after the voltage at the TMR pin has reached the fault threshold of 1.25V. It indicates the pass transistor is about to turn off because either the supply voltage has stayed at (See Datasheet)", 8 EN (hiz) "Open-Collector Enable Output. The EN pin goes high impedance when the voltage at the OUT pin is above (VCC - 0.7V), indicating the external MOSFET is fully on. The state of the pin is latched until the OUT pin voltage resets (See Datasheet)", 9 GND (power) "Device Ground.", 10 TMR (in) "Fault Timer Input. Connect a capacitor between this pin and ground to set the times for early warning, fault and cool down periods. The current charging up this pin during fault conditions depends on the voltage difference (See Datasheet)"

## LT4356CMS-1#PBF
designator U?
Surge Stopper, 4 to 80 V Vin, 10-pin SOP (MS-10), 0 to 70 degC, Pb-Free; Manufacturer: Linear Technology; PartNumber: LT4356CMS-1#PBF; Active Limiting: yes; Circuit Breaker Accuracy(%): 10; Circuit Breaker Threshold: 50 mV; Circuit Breakers(#): 1; Extended Temp: C, I, H; Fast Comparator: no; In-Rush Current: Ramp; Vin Range: 4 to 80 V; DatasheetVersion: Rev. A; PackageVersion: Rev. E, 06/2010; PackageReference: MS-10; PackageDescription: 10-Pin Plastic MSOP, Body 3 x 3 mm, Pitch 0.5 mm; Supplier 1: Digi-Key; Supplier Part Number 1: LT4356CMS-1#PBF-ND; Supplier 2: Farnell; Supplier Part Number 2: 2115913; Supplier 3: Newark; Supplier Part Number 3: 57M8717; Fault: no; Foldback: yes; Power Good: no; Reset: no; RoHS: TRUE; Mounting Technology: Surface Mount; ComponentLink1Description: Manufacturer URL; ComponentLink1URL: http://www.linear.com/; ComponentLink2Description: Datasheet; ComponentLink2URL: http://cds.linear.com/docs/en/datasheet/4356fa.pdf; ComponentLink3Description: Package Specification; ComponentLink3URL: http://cds.linear.com/docs/en/packaging/05081661_F_MS.pdf
footprint LT-MS-10_N (SOP, 10-Leads, Body 3.1x3.1mm, Pitch 0.5mm, IPC Medium Density)
footprint LT-MS-10_L (SOP, 10-Leads, Body 3.1x3.1mm, Pitch 0.5mm, IPC High Density)
footprint LT-MS-10_M (SOP, 10-Leads, Body 3.1x3.1mm, Pitch 0.5mm, IPC Low Density)
pins: 1 FB (in) "Voltage Regulator Feedback Input. Connect this pin to the center tap of the output resistive divider connected between the OUT pin and ground. During an overvoltage condition, the GATE pin is servoed to maintain a 1.25V (See Datasheet)", 2 OUT (in) "Output Voltage Sense Input. This pin senses the voltage at the source of the N-channel MOSFET and sets the fault timer current. When the OUT pin voltage reaches 0.7V away from VCC, the EN pin goes high impedance.", 3 GATE (out) "N-Channel MOSFET Gate Drive Output. The GATE pin is pulled up by an internal charge pump current source and clamped to 14V above the OUT pin. Both voltage and current amplifiers control the GATE pin to regulate the output (See Datasheet)", 4 SNS (in) "Current Sense Input. Connect this pin to the output of the current sense resistor. The current limit circuit controls the GATE pin to limit the sense voltage between VCC and SNS pins to 50mV. At the same time the sense (See Datasheet)", 5 VCC (power) "Positive Supply Voltage Input. The positive supply input ranges from 4V to 80V for normal operation. It can also be pulled below ground potential by up to 60V during a reverse battery condition, without damaging the part. (See Datasheet)", 6 ~{SHDN} (in) "Shutdown Control Input. The LT4356 can be shut down to a low current mode by pulling the S\H\D\N\ pin below 0.4V. Pull this pin above 2.1V or disconnect it and allow the internal current source to turn the part back on. The (See Datasheet)", 7 ~{FLT} (hiz) "Open-Collector Fault Output. This pin pulls low after the voltage at the TMR pin has reached the fault threshold of 1.25V. It indicates the pass transistor is about to turn off because either the supply voltage has stayed at (See Datasheet)", 8 EN (hiz) "Open-Collector Enable Output. The EN pin goes high impedance when the voltage at the OUT pin is above (VCC - 0.7V), indicating the external MOSFET is fully on. The state of the pin is latched until the OUT pin voltage resets (See Datasheet)", 9 GND (power) "Device Ground.", 10 TMR (in) "Fault Timer Input. Connect a capacitor between this pin and ground to set the times for early warning, fault and cool down periods. The current charging up this pin during fault conditions depends on the voltage difference (See Datasheet)"